# Altium footprint library ARCOM_Inductors.PcbLib: 29 footprints (part 2 of 2)
Each footprint in its own frame and in the unit in brackets; x right, y up, seen from the top. Pads: shape width x height; smd on the part's side, far side on the other; paste and mask are expansions set on the pad; w line width, h text height; cw(c..) or ccw(c..) is an arc to the next point about the centre after c.
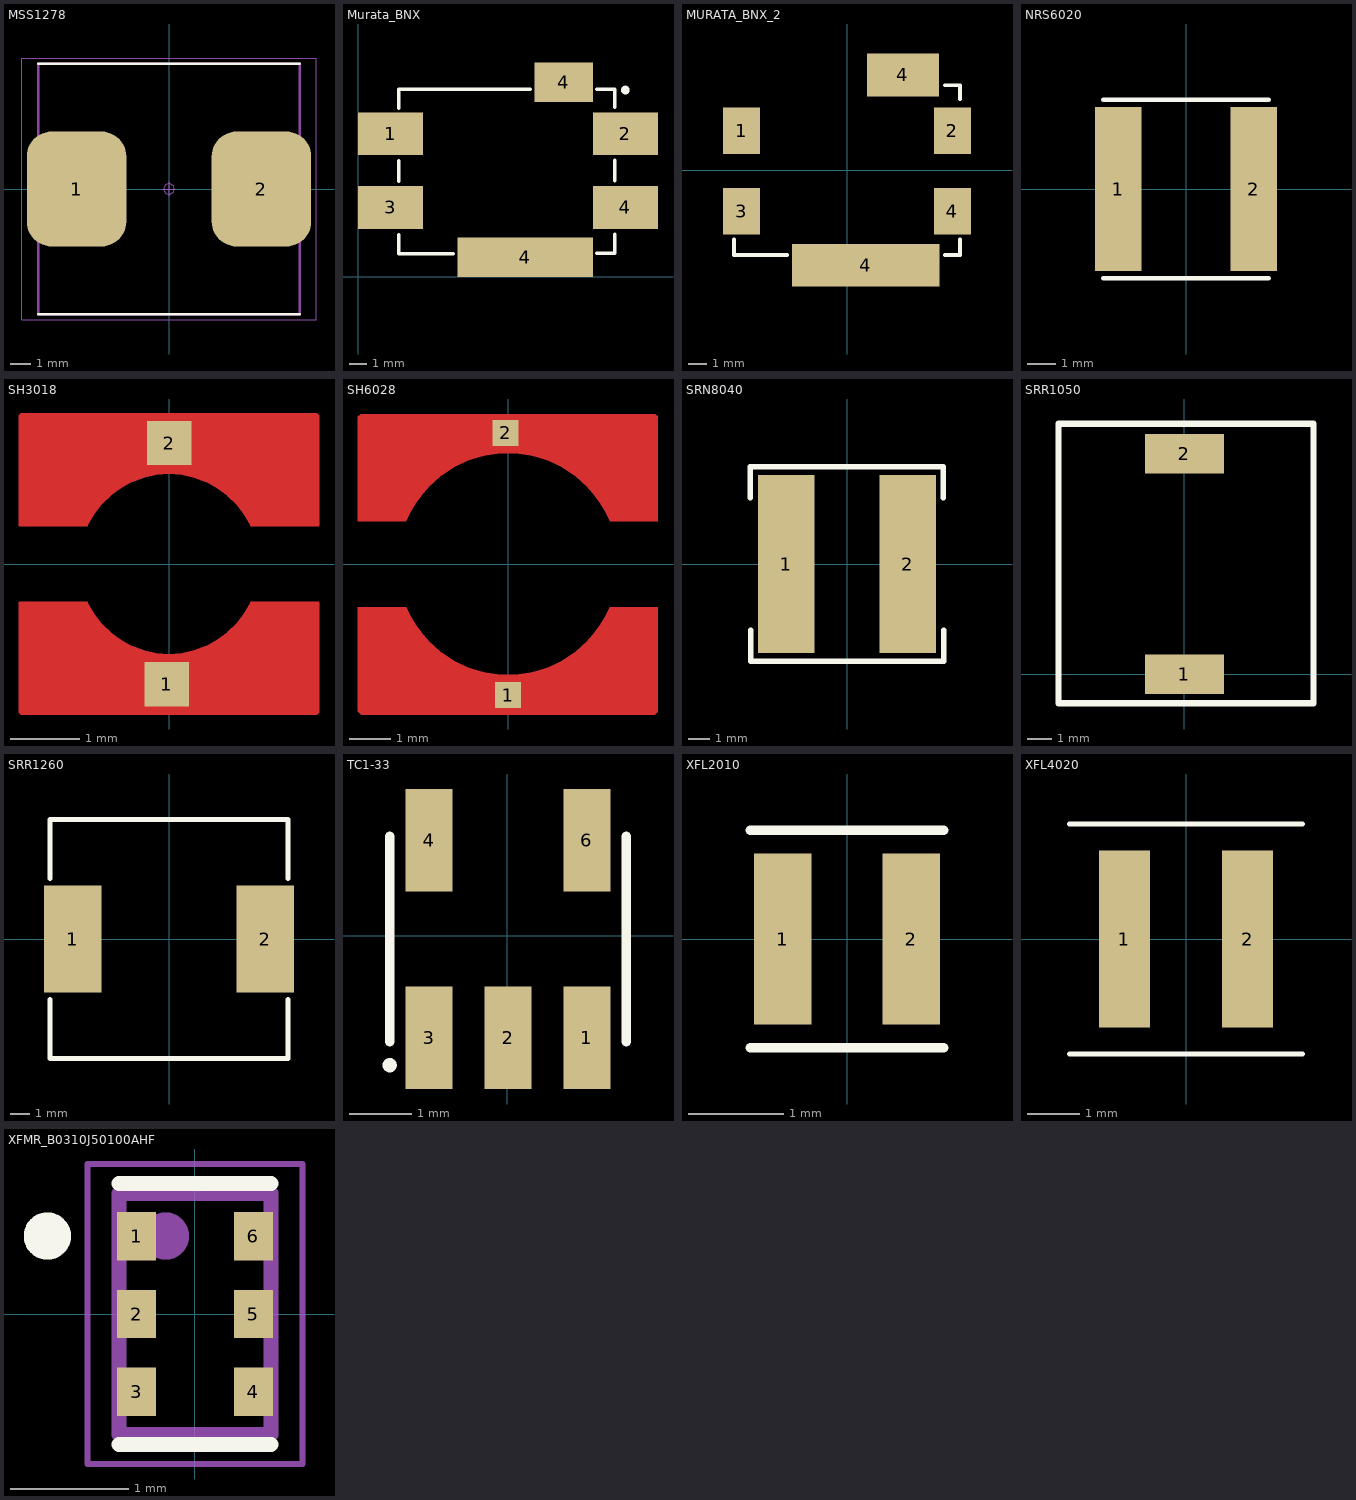
[diagram p1: the footprints below, top view; thin cyan lines are the x and y axes]

## MSS1278 [mm]
pads (2):
  rrect50% 4.76x5.51 smd paste-25.4 mask-25.4: 1(-4.425,0) 2(4.425,0)
Top Overlay:
  lines w0.12: -6.25,-6 6.25,-6 ; -6.25,6 6.25,6
Top Paste:
  region: -2.035,1.565 -2.076,1.876 -2.196,2.165 -2.386,2.414 -2.635,2.604 -2.924,2.724 -3.235,2.765 -5.615,2.765 -5.926,2.724 -6.215,2.604 -6.464,2.414 -6.654,2.165 -6.774,1.876 -6.815,1.565 -6.815,-1.565 -6.774,-1.876 -6.654,-2.165 -6.464,-2.414 -6.215,-2.604 -5.926,-2.724 -5.615,-2.765 -3.235,-2.765 -2.924,-2.724 -2.635,-2.604 -2.386,-2.414 -2.196,-2.165 -2.076,-1.876 -2.035,-1.565
  region: 6.815,1.565 6.774,1.876 6.654,2.165 6.464,2.414 6.215,2.604 5.926,2.724 5.615,2.765 3.235,2.765 2.924,2.724 2.635,2.604 2.386,2.414 2.196,2.165 2.076,1.876 2.035,1.565 2.035,-1.565 2.076,-1.876 2.196,-2.165 2.386,-2.414 2.635,-2.604 2.924,-2.724 3.235,-2.765 5.615,-2.765 5.926,-2.724 6.215,-2.604 6.464,-2.414 6.654,-2.165 6.774,-1.876 6.815,-1.565
Top Solder:
  region: -2.035,1.565 -2.076,1.876 -2.196,2.165 -2.386,2.414 -2.635,2.604 -2.924,2.724 -3.235,2.765 -5.615,2.765 -5.926,2.724 -6.215,2.604 -6.464,2.414 -6.654,2.165 -6.774,1.876 -6.815,1.565 -6.815,-1.565 -6.774,-1.876 -6.654,-2.165 -6.464,-2.414 -6.215,-2.604 -5.926,-2.724 -5.615,-2.765 -3.235,-2.765 -2.924,-2.724 -2.635,-2.604 -2.386,-2.414 -2.196,-2.165 -2.076,-1.876 -2.035,-1.565
  region: 6.815,1.565 6.774,1.876 6.654,2.165 6.464,2.414 6.215,2.604 5.926,2.724 5.615,2.765 3.235,2.765 2.924,2.724 2.635,2.604 2.386,2.414 2.196,2.165 2.076,1.876 2.035,1.565 2.035,-1.565 2.076,-1.876 2.196,-2.165 2.386,-2.414 2.635,-2.604 2.924,-2.724 3.235,-2.765 5.615,-2.765 5.926,-2.724 6.215,-2.604 6.464,-2.414 6.654,-2.165 6.774,-1.876 6.815,-1.565
Mechanical 1:
  lines w0.12: -6.25,-6 -6.25,6 6.25,6 6.25,-6 -6.25,-6
M16 Bot Assy:
  circle w0.05: c0,0 r0.25
  lines w0.05: -0.35,0 0.35,0 ; 0,-0.35 0,0.35 ; -7.06,-6.25 -7.06,6.25 7.06,6.25 7.06,-6.25 -7.06,-6.25

## Murata_BNX [mm]
pads (6):
  rect 3.8x2.5 smd: 1(1.9,8.35) 2(15.6,8.35) 3(1.9,4.05) 4(15.6,4.05)
  rect 7.9x2.3 smd: 4(9.75,1.15)
  rect 3.4x2.3 smd: 4(12,11.35)
Top Overlay:
  circle w0.254: c15.596,10.897 r0.127
  lines w0.203: 2.388,2.464 2.388,1.346 5.563,1.346 ; 2.388,5.588 2.388,6.782 ; 2.388,9.83 2.388,10.947 10.058,10.947 ; 13.919,1.372 14.986,1.372 14.986,2.489 ; 13.919,10.947 14.986,10.947 14.986,9.906 ; 14.986,5.613 14.986,6.807
3D body "User Library-BNX022.STEP": height 3.1, standoff 0, extent 2.637,1.597 14.737,10.697

## MURATA_BNX_2 [mm]
pads (6):
  rect 2x2.5 smd: 1(-5.658,2.095) 2(5.642,2.095) 3(-5.658,-2.205) 4(5.642,-2.205)
  rect 7.9x2.3 smd: 4(0.992,-5.105)
  rect 3.85x2.3 smd: 4(2.992,5.095)
Top Overlay:
  lines w0.2: -6.058,-3.705 -6.058,-4.555 -3.218,-4.555 ; 5.242,-4.555 6.042,-4.555 6.042,-3.705 ; 5.242,4.545 6.042,4.545 6.042,3.795
3D body "User Library-BNX022.STEP": height 3.1, standoff 0, extent -6.05,-4.563 6.05,4.537

## NRS6020 [mm]
pads (2):
  rect 1.6x5.7 smd mask+0.051: 1(-2.35,0) 2(2.35,0)
Top Overlay:
  lines w0.152: -2.87,-3.099 2.87,-3.099 ; -2.87,3.099 2.87,3.099
3D body "STEP-WE-LQS-6028-rev1.stp": height 2.8, standoff 0, extent -3,-3 3,3

## SH3018 [mm]
pads (2):
  rect 0.635x0.635 smd mask+0.051: 1(-0.033,-1.725)
  rect 0.635x0.635 smd: 2(0.005,1.735)
Top Layer:
  region: -2.149,-2.123 -2.149,-0.552 -2.149,-0.551 -1.177,-0.551 -1.135,-0.633 -1.035,-0.787 -0.913,-0.925 -0.773,-1.045 -0.618,-1.144 -0.451,-1.219 -0.274,-1.271 -0.092,-1.297 0,-1.3 0.092,-1.297 0.274,-1.271 0.451,-1.219 0.618,-1.144 0.773,-1.045 0.913,-0.925 1.035,-0.787 1.135,-0.633 1.177,-0.551 2.149,-0.551 2.149,-0.552 2.149,-2.123 2.121,-2.151 -2.121,-2.151
  region: 2.149,2.123 2.149,0.552 2.149,0.551 1.177,0.551 1.135,0.633 1.035,0.787 0.913,0.925 0.773,1.045 0.618,1.144 0.451,1.219 0.274,1.271 0.092,1.297 0,1.3 -0.092,1.297 -0.274,1.271 -0.451,1.219 -0.618,1.144 -0.773,1.045 -0.913,0.925 -1.035,0.787 -1.135,0.633 -1.177,0.551 -2.149,0.551 -2.149,0.552 -2.149,2.123 -2.121,2.151 2.121,2.151
  lines w0.025: -2.149,-0.552 -2.149,-2.123 -2.121,-2.151 0,-2.151 2.121,-2.151 2.149,-2.123 2.149,-0.552 ; -2.149,-0.551 -2.149,-0.552 ; -2.149,-0.551 -1.177,-0.551 ccw(c0,0) 0,-1.3 ccw(c0,0) 1.177,-0.551 2.149,-0.551 ; -2.149,0.552 -2.149,2.123 -2.121,2.151 0,2.151 2.121,2.151 2.149,2.123 2.149,0.552 ; -2.149,0.551 -2.149,0.552 ; -2.149,0.551 -1.177,0.551 cw(c0,0) 0,1.3 cw(c0,0) 1.177,0.551 2.149,0.551 ; 2.149,-0.552 2.149,-0.551 ; 2.149,0.552 2.149,0.551
3D body "SH3018-L(100).575754.stp": height 1.64, standoff -0.02, extent -1.908,-1.907 1.892,1.893

## SH6028 [mm]
pads (2):
  rect 0.635x0.635 smd mask+0.051: 1(0.003,-3.19)
  rect 0.635x0.635 smd: 2(-0.058,3.19)
Top Layer:
  region: -3.576,-3.65 -3.649,-3.578 -3.649,-1.05 -2.487,-1.05 -2.404,-1.229 -2.199,-1.567 -1.947,-1.871 -1.653,-2.135 -1.324,-2.353 -0.966,-2.521 -0.588,-2.635 -0.197,-2.693 0,-2.7 0.197,-2.693 0.588,-2.635 0.966,-2.521 1.324,-2.353 1.653,-2.135 1.947,-1.871 2.199,-1.567 2.404,-1.229 2.487,-1.05 3.649,-1.05 3.649,-3.578 3.576,-3.65
  region: -3.649,1.05 -3.649,3.578 -3.576,3.65 3.576,3.65 3.649,3.578 3.649,1.05 2.487,1.05 2.404,1.229 2.199,1.567 1.947,1.871 1.653,2.135 1.324,2.353 0.966,2.521 0.588,2.635 0.197,2.693 0,2.7 -0.197,2.693 -0.588,2.635 -0.966,2.521 -1.324,2.353 -1.653,2.135 -1.947,1.871 -2.199,1.567 -2.404,1.229 -2.487,1.05
  lines w0.025: -3.649,-3.578 -3.576,-3.65 0,-3.65 3.576,-3.65 3.649,-3.578 3.649,-1.05 2.487,-1.05 cw(c0,0) 0,-2.7 cw(c0,0) -2.487,-1.05 -3.649,-1.05 -3.649,-3.578 ; -3.649,1.05 -3.649,3.578 -3.576,3.65 0,3.65 3.576,3.65 3.649,3.578 3.649,1.05 2.487,1.05 ccw(c0,0) 0,2.7 ccw(c0,0) -2.487,1.05 -3.649,1.05
3D body "SH6028-L(100).575800.stp": height 2.76, standoff -0.01, extent -3.4,-3.4 3.4,3.4

## SRN8040 [mm]
pads (2):
  rect 2.6x8.2 smd mask+0.051: 1(-2.8,0)
  rect 2.6x8.2 smd: 2(2.8,0)
Top Overlay:
  lines w0.254: -4.445,3.048 -4.445,4.47 4.419,4.47 4.419,3.048 ; -4.42,-3.048 -4.42,-4.47 4.445,-4.47 4.445,-3.048
3D body "srn8040.stp": height 4, standoff 0, extent -4,-4 4,4

## SRR1050 [mm]
pads (2):
  rect 3.2x1.6 smd: 1(0,0) 2(0,8.9)
Top Overlay:
  lines w0.254: -5.08,-1.168 -5.08,10.109 5.207,10.109 5.207,-1.168 -5.08,-1.168
M15 Top Assy:
  text ".Designator" at -4.191,4.064 h1.52
3D body "CDRH104R.STEP": height 4, standoff 0, extent -5.08,-0.805 5.22,9.695

## SRR1260 [mm]
pads (2):
  rect 2.9x5.4 smd: 1(-4.85,0) 2(4.85,0)
Top Overlay:
  lines w0.254: -5.994,-3.048 -5.994,-6.02 5.994,-6.02 5.994,-3.048 ; -5.994,3.048 -5.994,6.02 5.994,6.02 5.994,3.048
3D body "srr1260.stp": height 6, standoff 0, extent -6.25,-6.275 6.25,6.225

## TC1-33 [mm]
pads (5):
  rect 0.76x1.65 smd: 1(1.28,-1.643) 2(0.01,-1.643) 3(-1.26,-1.643) 4(-1.26,1.537) 6(1.28,1.537)
Top Overlay:
  circle w0.127: c-1.895,-2.085 r0.051
  lines w0.152: -1.895,-1.704 -1.895,-0.053 -1.895,1.598 ; 1.915,-1.704 1.915,-0.053 1.915,1.598
3D body "User Library-TC1-1T+.STEP": height 4.06, standoff 0, extent -1.905,-1.971 1.905,1.839

## XFL2010 [mm]
pads (2):
  rect 0.6x1.8 smd: 1(-0.675,0) 2(0.675,0)
Top Overlay:
  lines w0.102: -1.016,-1.143 1.016,-1.143 ; -1.016,1.143 1.016,1.143
3D body "Coilcraft-XFL2010.STEP": height 0.95, standoff -0.05, extent -1.052,-1.095 1.048,1.105

## XFL4020 [mm]
pads (2):
  rect 0.98x3.4 smd: 1(-1.185,0) 2(1.185,0)
Top Overlay:
  lines w0.102: -2.235,-2.21 2.235,-2.21 ; -2.235,2.21 2.235,2.21
3D body "User Library-XFL4020.STEP": height 2.09, standoff -0.01, extent -2.15,-2.15 2.15,2.15

## XFMR_B0310J50100AHF [mm]
pads (6):
  rect 0.33x0.41 smd: 1(-0.495,0.66) 2(-0.495,0) 3(-0.495,-0.66) 4(0.495,-0.66) 5(0.495,0) 6(0.495,0.66)
Top Overlay:
  circle w0.2: c-1.25,0.66 r0.1
  lines w0.127: -0.645,-1.105 0.645,-1.105 ; -0.645,1.105 0.645,1.105
Mechanical 4:
  circle w0.2: c-0.25,0.66 r0.1
  circle w0.2: c-0.25,0.66 r0.1
  lines w0.127: -0.645,-1.02 0.645,-1.02 ; -0.645,-1.02 -0.645,1.02 ; -0.645,-1.02 0.645,-1.02 ; -0.645,-1.02 -0.645,1.02 ; -0.645,1.02 0.645,1.02 ; -0.645,1.02 0.645,1.02 ; 0.645,-1.02 0.645,1.02 ; 0.645,-1.02 0.645,1.02
M15 Top Assy:
  lines w0.05: -0.91,-1.27 0.91,-1.27 0.91,1.27 -0.91,1.27 -0.91,-1.27